# EAGLE library part DISPLAY (library rpi-radio)
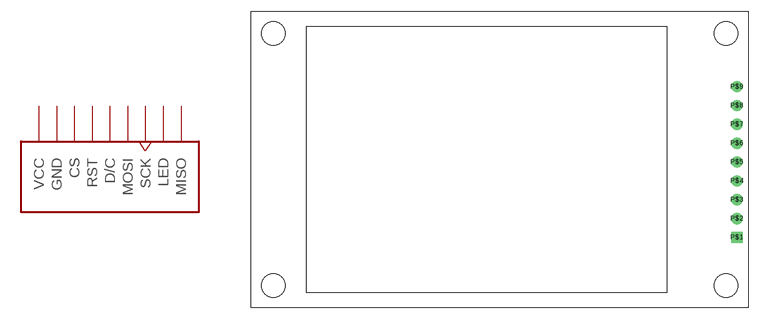
[diagram p0: symbol with the pads of DISPLAY; footprint DISPLAY]

Designator prefix -

## DISPLAY  [DISPLAY]
P$1  VCC  pwr
P$2  GND  pwr
P$3  CS  in
P$4  RST  in
P$5  D/C
P$6  MOSI  in
P$7  SCK  in
P$8  LED  pwr
P$9  MISO  out

## Footprint DISPLAY (pad centres in mm)
drill 1 square: P$1 68.46,9.49
drill 1: P$2 68.46,12.03; P$3 68.46,14.57; P$4 68.46,17.11; P$5 68.46,19.65; P$6 68.46,22.19; P$7 68.46,24.73; P$8 68.46,27.27; P$9 68.46,29.81
hole 3.2 at 6,37
hole 3.2 at 6,3
hole 3.2 at 67,3
hole 3.2 at 67,37